# EAGLE library part MCP4018 (library MICROCHIP)
MICROCHIP MCP4018 7-Bit Single I2C™ Digital POT with Volatile Memory in SC70 Datasheet <http://ww1.microchip.com/downloads/en/DeviceDoc/22147a.pdf>
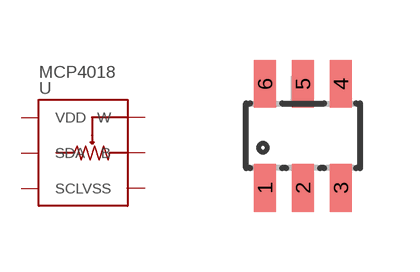
[diagram p1: symbol with the pads of SOT23-6; footprint SOT23-6]

Designator prefix -

## MCP4018  [SOT23-6]
1  VDD  pas
2  VSS  pas
3  SCL  pas
4  SDA  pas
5  B  pas
6  W  pas

## Footprint SOT23-6 (pad centres in mm)
smd 0.55 x 1.2: 1 -0.95,-1.3; 2 0,-1.3; 3 0.95,-1.3; 4 0.95,1.3; 5 0,1.3; 6 -0.95,1.3